# Altium footprint library POT.PcbLib: 30 footprints (part 2 of 2)
Each footprint in its own frame and in the unit in brackets; x right, y up, seen from the top. Pads: shape width x height; smd on the part's side, far side on the other; paste and mask are expansions set on the pad; w line width, h text height; cw(c..) or ccw(c..) is an arc to the next point about the centre after c.
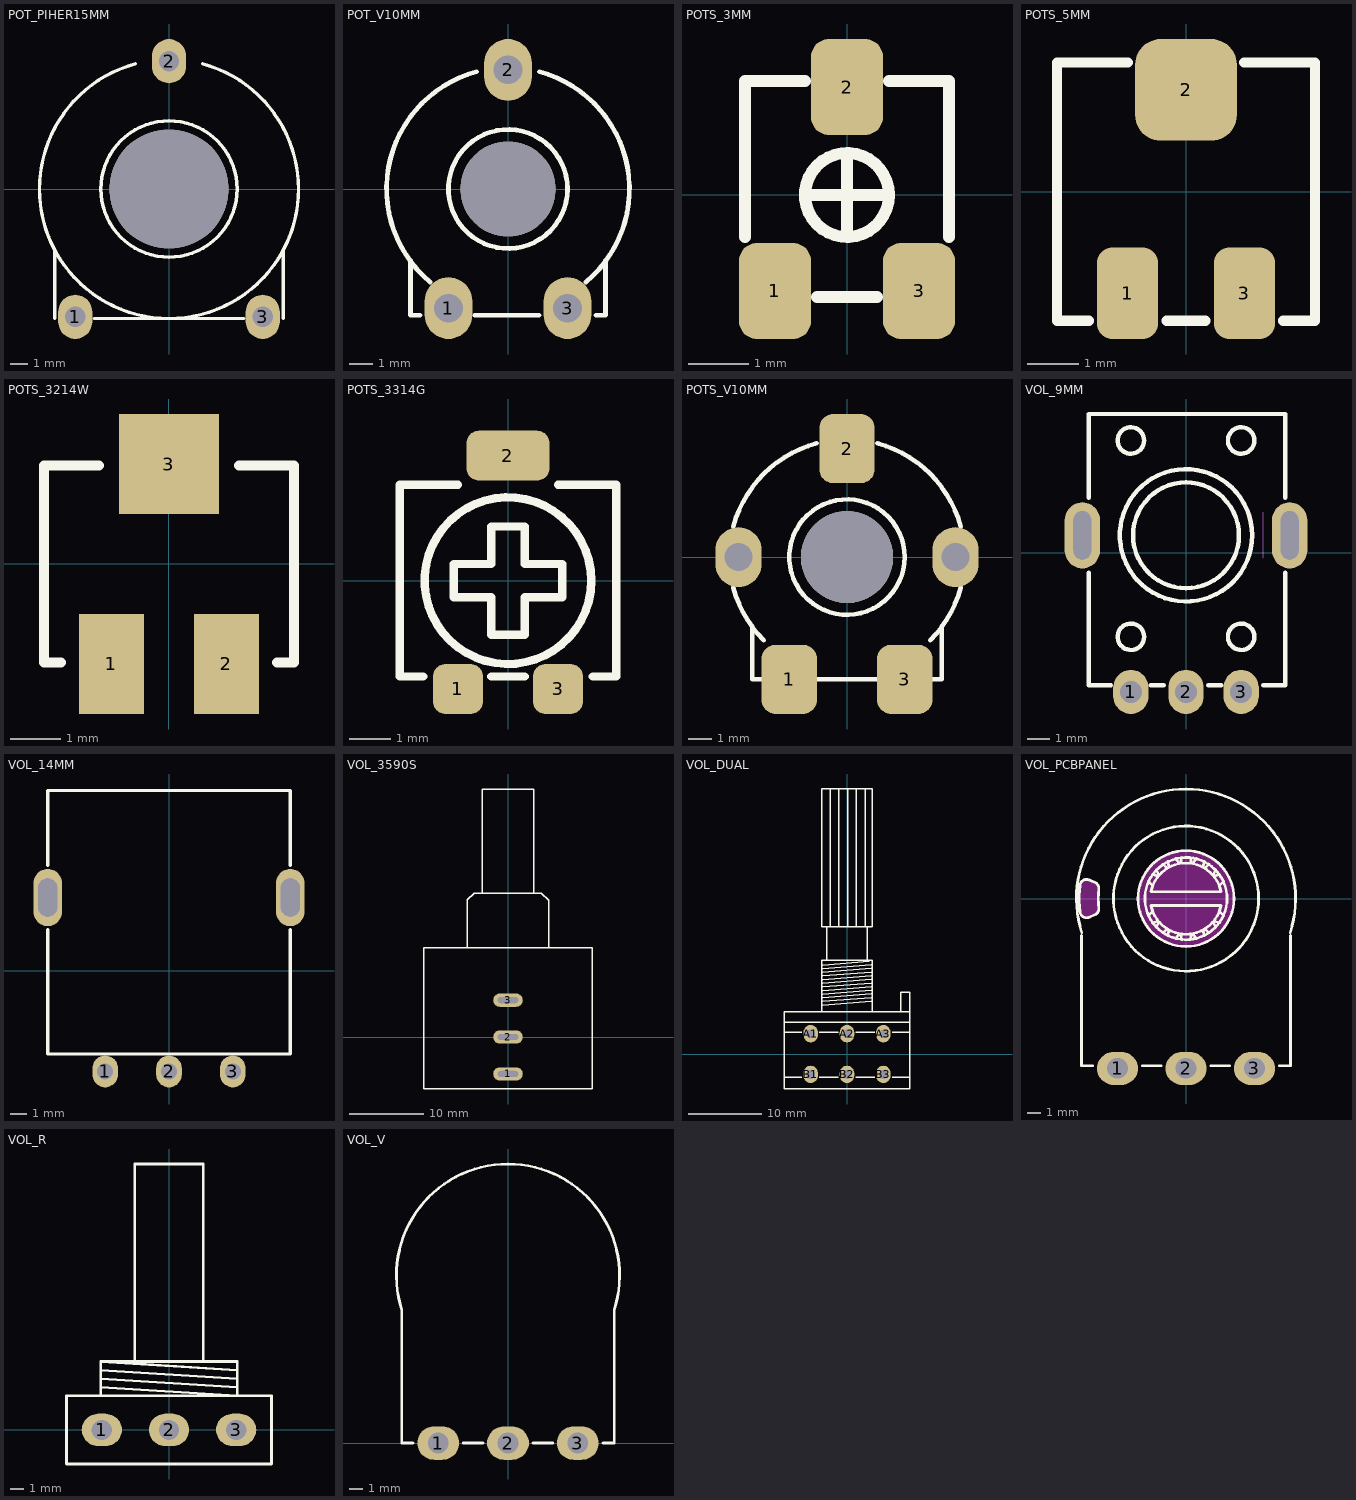
[diagram p1: the footprints below, top view; thin cyan lines are the x and y axes]

## POT_PIHER15MM [mm] "POT, TRIM, PIHER PT-15 15mm"
pads (4):
  oval 2x2.6 hole 1.2: 1(-5.5,-7.5) 2(0,7.5) 3(5.5,-7.5)
  round 7 hole 7 unplated mask+0.1: ""(0,0)
Top Overlay:
  circle w0.2: c0,0 r4
  lines w0.2: -6.7,-7.6 -6.7,-3.6 ; -4.4,-7.6 4.4,-7.6 ; -1.967,7.341 ccw(c0,0) -7.6,0 ccw(c0,0) 7.6,0 ccw(c0,0) 1.967,7.341 ; 6.7,-7.6 6.7,-3.6
3D body "Trimmer_Piher_PT-15.step": height 6.97, standoff -3.93, extent -7.5,-7.7 7.5,7.7

## POT_V10MM [mm] "POT, TRIM, V-10 10mm"
pads (4):
  oval 2x2.6 hole 1.2: 1(-2.5,-5) 2(0,5) 3(2.5,-5)
  round 4 hole 4 unplated mask+0.1: ""(0,0)
Top Overlay:
  circle w0.2: c0,0 r2.5
  lines w0.2: -4.1,-3 -4.1,-5.3 -3.7,-5.3 ; -3.278,-3.907 cw(c0,0) -1.32,4.926 ; -1.4,-5.3 1.3,-5.3 ; 1.32,4.926 cw(c0,0) 3.278,-3.907 ; 3.7,-5.3 4.1,-5.3 4.1,-3
3D body "User Library-Trimpot V10.step": height 5.9, standoff -3.4, extent -5.15,-5.207 5.15,5.093

## POTS_3MM [mm] "POT SMD, 3.0X3.0mm, Trimming PVG3A PVZ3A"
pads (3):
  rrect50% 1.2x1.6 smd: 1(-1.2,-1.6) 2(0,1.8) 3(1.2,-1.6)
Top Overlay:
  circle w0.2: c0,0 r0.7
  lines w0.2: -1.7,-0.7 -1.7,1.9 -0.7,1.9 ; -0.7,0 0.7,0 ; -0.5,-1.7 0.5,-1.7 ; 0,-0.7 0,0.7 ; 0.7,1.9 1.7,1.9 1.7,-0.7
3D body "User Library-PVZ3A.STEP": height 1.95, standoff 0, extent -1.55,-1.85 1.55,1.84

## POTS_5MM [mm] "POT SMD, 5.0X5.0mm, Trimming PVG5H"
pads (3):
  rrect50% 1.2x1.8 smd: 1(-1.15,-2) 3(1.15,-2)
  rrect50% 2x2 smd: 2(0,2)
Top Overlay:
  lines w0.2: -1.905,-2.54 -2.54,-2.54 -2.54,2.54 -1.143,2.54 ; -0.381,-2.54 0.381,-2.54 ; 1.143,2.54 2.54,2.54 2.54,-2.54 1.905,-2.54
3D body "User Library-PVG5H.STEP": height 3.7, standoff 0, extent -2.4,-2.55 2.4,2.55

## POTS_3214W [mm] "POT SMD, 4.0X5.0mm, Trimming SM-42/43W 3214W"
pads (3):
  rect 1.3x2 smd: 1(-1.15,-2) 2(1.15,-2)
  rect 2x2 smd: 3(0,2)
Top Overlay:
  lines w0.2: -2.159,-1.97 -2.5,-1.97 -2.5,1.97 -1.397,1.97 ; 1.397,1.97 2.5,1.97 2.5,-1.97 2.159,-1.97
3D body "SW3dPS-Pot 3214.STEP": height 5.4, standoff 0, extent -2.4,-1.97 2.4,1.97

## POTS_3314G [mm] "POT SMD, 5.0X5.0mm, Trimming, 3314G"
pads (3):
  rrect50% 1.2x1.2 smd: 1(-1.2,-2.6) 3(1.2,-2.6)
  rrect50% 2x1.2 smd: 2(0,3)
Top Overlay:
  circle w0.2: c0,0 r2
  lines w0.2: -1.3,-0.4 -1.3,0.4 -0.4,0.4 -0.4,1.3 0.4,1.3 0.4,0.4 1.3,0.4 1.3,-0.4 0.4,-0.4 0.4,-1.3 -0.4,-1.3 -0.4,-0.4 -1.3,-0.4
  lines w0.203: -2.032,-2.3 -2.6,-2.3 -2.6,2.3 -1.2,2.3 ; -0.4,-2.3 0.4,-2.3 ; 1.2,2.3 2.6,2.3 2.6,-2.3 2.032,-2.3
3D body "3314g-1-104e.stp": height 2.67, standoff -0.06, extent -2.451,-2.925 2.548,3.272

## POTS_V10MM [mm] "POT, TRIM, V-10 10mm SMD"
pads (6):
  rrect50% 2.4x3 smd: 1(-2.5,-5.3) 2(0,4.7) 3(2.5,-5.3)
  oval 2x2.6 hole 1.2: ""(-4.7,0) ""(4.7,0)
  round 4 hole 4 unplated mask+0.1: ""(0,0)
Top Overlay:
  circle w0.2: c0,0 r2.5
  lines w0.2: -4.926,-1.32 ccw(c0,0) -3.606,-3.606 ; -4.926,1.32 cw(c0,0) -1.32,4.926 ; -4.1,-3 -4.1,-5.3 -3.7,-5.3 ; -1.4,-5.3 1.3,-5.3 ; 1.32,4.926 cw(c0,0) 4.926,1.32 ; 3.606,-3.606 ccw(c0,0) 4.926,-1.32 ; 3.7,-5.3 4.1,-5.3 4.1,-3
3D body "User Library-Trimpot V60.step": height 5.7, standoff -0.85, extent -5.15,-5.742 5.15,5.15

## VOL_9MM [mm] "VOULME  9mm Alpha Alps, RV09ACF EVUF"
height 0.508
pads (5):
  oval 1.6x2 / inner round 1.4 / far side oval 1.6x2 hole 1: 1(-2.5,-6.3) 2(0,-6.3) 3(2.5,-6.3)
  oval 1.6x3 hole 0.8 slot 2.2 at 90 deg: ""(-4.7,0.8) ""(4.7,0.8)
Top Overlay:
  circle w0.2: c0,0.8 r2.4
  circle w0.2: c0,0.8 r3
  circle w0.2: c2.5,5.1 r0.6
  circle w0.2: c-2.5,5.1 r0.6
  circle w0.2: c2.5,-3.8 r0.6
  circle w0.2: c-2.5,-3.8 r0.6
  lines w0.2: -4.4,-0.9 -4.4,-6 -3.4,-6 ; -4.4,2.5 -4.4,6.3 4.5,6.3 4.5,2.5 ; -1.6,-6 -1,-6 ; 1,-6 1.6,-6 ; 3.5,-6 4.5,-6 4.5,-0.9
Mechanical 1:
  lines w0.008: 3.5,-0.25 3.5,1.85
3D body "User Library-RV09ACF-40_RK09K1130A5R.step": height 20.1, standoff -3.7, extent -4.902,-6.428 4.849,6.122

## VOL_14MM [mm] "VOULME  14mm, RV141F-40E3"
height 0.508
pads (5):
  oval 1.6x2 / inner round 1.4 / far side oval 1.6x2 hole 1: 1(-4,-6.3) 2(0,-6.3) 3(4,-6.3)
  oval 1.8x3.6 hole 1.2 slot 2.4 at 90 deg: ""(-7.6,4.6) ""(7.6,4.6)
Top Overlay:
  lines w0.2: -7.6,2.6 -7.6,-5.2 7.6,-5.2 7.6,2.6 ; -7.6,6.6 -7.6,11.3 7.6,11.3 7.6,6.6
3D body "User Library-RV141F-40E3-18BL-003.step": height 24.8, standoff -3.5, extent -8.198,-6.5 8.198,11.578

## VOL_3590S [mm] "VOULME 3590S"
height 0.508
pads (3):
  oval 4x1.8 hole 0.8 slot 2.8 at 0 deg: 1(0,-5) 2(0,0) 3(0,5)
Top Overlay:
  lines w0.2: -5.5,12.14 -5.5,18.6 -4.6,19.5 4.5,19.5 5.5,18.5 5.5,12.14 ; -3.5,19.5 -3.5,33.6 3.5,33.6 3.5,19.5 ; -11.4,-7.04 11.4,-7.04 11.4,12.1 -11.4,12.1 -11.4,-7.04
3D body "User Library-Bourns 3590S-2-502L.step": height 23.1, standoff -3.73, extent -11.3,-6.9 11.3,33.5

## VOL_DUAL [mm] "VOULME RIGHT ANGLE DUAL 3RP/1610G"
pads (6):
  oval 2x2.4 hole 1.2: A1(-5,2.8) A2(0,2.8) A3(5,2.8) B1(-5,-2.8) B2(0,-2.8) B3(5,-2.8)
Top Overlay:
  lines w0.2: -8.6,-3.2 -6.2,-3.2 ; -8.6,3 -6.2,3 ; -8.6,4.4 8.6,4.4 ; -3.8,-3.2 -1.2,-3.2 ; -3.8,3 -1.2,3 ; -3.5,5.8 -3.5,12.9 3.5,12.9 3.5,5.8 ; -3.3,6.727 3.3,7.252 ; -3.3,7.227 3.3,7.752 ; -3.3,7.727 3.3,8.252 ; -3.3,8.227 3.3,8.752 ; -3.3,8.727 3.3,9.252 ; -3.3,9.227 3.3,9.752 ; -3.3,9.727 3.3,10.252 ; -3.3,10.227 3.3,10.752 ; -3.3,10.727 3.3,11.252 ; -3.3,11.227 3.3,11.752 ; -3.3,11.727 3.3,12.252 ; -3.3,12.227 3.075,12.752 ; -2.8,12.927 -2.8,17.5 ; -2.3,17.5 -2.3,36.4 ; -1.1,17.5 -1.1,36.4 ; 0.1,17.5 0.1,36.4 ; 1.2,-3.2 3.8,-3.2 ; 1.2,3 3.8,3 ; 1.3,17.5 1.3,36.4 ; 2.5,17.5 2.5,36.4 ; 2.8,12.927 2.8,17.5 ; 6.2,-3.2 8.6,-3.2 ; 6.2,3 8.6,3 ; 7.4,5.8 7.4,8.5 8.6,8.5 8.6,5.8 -8.6,5.8 -8.6,-4.8 8.6,-4.8 8.6,6.3 ; -2.8,17.5 -3.5,17.5 -3.5,36.4 3.5,36.4 3.5,17.5 2.8,17.5 ; -2.8,17.5 2.8,17.5
3D body "SW3dPS-ALPHA-potentiometer stereo PCB mount.STEP": height 21.2, standoff -3.3, extent -8.5,-4.69 8.5,36.16

## VOL_PCBPANEL [mm] "VOULME VERTICAL"
height 0.508
pads (3):
  oval 3x2.4 hole 1.5: 1(-5,-12.4) 2(0,-12.4) 3(5,-12.4)
Top Overlay:
  circle w0.2: c0,0 r3
  circle w0.2: c0,0 r3.5
  circle w0.2: c0,0 r5.3
  lines w0.2: -7.742,-0.987 ccw(c-7.25,-0.9) -7.049,-1.358 -6.582,-1.15 ; -7.742,0.987 cw(c-7.25,0.9) -7.049,1.358 -6.582,1.15 ; -7.738,-0.978 cw(c0,0) -7.737,0.986 ; -7.62,-2.7 -7.62,-12.2 -6.8,-12.2 ; -7.608,-2.472 cw(c0,0) 7.608,-2.472 ; -6.584,-1.147 ccw(c-6.865,-0.734) -6.366,-0.708 ; -6.584,1.147 cw(c-6.865,0.734) -6.366,0.708 ; -6.361,-0.707 cw(c0,0) -6.361,0.707 ; -3.2,-12.2 -1.8,-12.2 ; -2.748,-1.24 -2.452,-0.954 ; -2.748,1.24 -2.452,0.954 ; -2.55,-0.51 ccw(c0,0) 2.55,-0.51 ; -2.55,0.51 cw(c0,0) 2.55,0.51 ; -2.5,-0.5 2.5,-0.5 ; -2.5,0.5 2.5,0.5 ; -2.448,-1.76 -2.052,-1.646 ; -2.448,1.76 -2.052,1.646 ; -2.158,-2.105 -1.978,-1.735 ; -2.158,2.105 -1.978,1.735 ; -1.699,-2.491 -1.365,-2.249 ; -1.699,2.491 -1.365,2.249 ; -1.308,-2.716 -1.265,-2.306 ; -1.308,2.716 -1.265,2.306 ; -0.744,-2.922 -0.513,-2.58 ; -0.744,2.922 -0.513,2.58 ; -0.4,-2.6 -0.3,-3 ; -0.4,2.6 -0.3,3 ; 0.3,-3 0.4,-2.6 ; 0.3,3 0.4,2.6 ; 0.513,-2.58 0.744,-2.922 ; 0.513,2.58 0.744,2.922 ; 1.265,-2.306 1.308,-2.716 ; 1.265,2.306 1.308,2.716 ; 1.365,-2.249 1.699,-2.491 ; 1.365,2.249 1.699,2.491 ; 1.8,-12.2 3.2,-12.2 ; 1.978,-1.735 2.158,-2.105 ; 1.978,1.735 2.158,2.105 ; 2.052,-1.646 2.448,-1.76 ; 2.052,1.646 2.448,1.76 ; 2.452,-0.954 2.748,-1.24 ; 2.452,0.954 2.748,1.24 ; 6.8,-12.2 7.62,-12.2 7.62,-2.7
Keep-Out Layer:
  board cut-out: -7.742,-0.987 -7.733,-1.043 -7.688,-1.147 -7.622,-1.239 -7.536,-1.314 -7.436,-1.368 -7.326,-1.397 -7.213,-1.402 -7.101,-1.381 -7.049,-1.358 -6.582,-1.15 -6.584,-1.147 -6.53,-1.111 -6.446,-1.014 -6.388,-0.898 -6.362,-0.772 -6.366,-0.708 -6.361,-0.707 -6.378,-0.531 -6.398,-0.177 -6.398,0.177 -6.378,0.531 -6.361,0.707 -6.366,0.708 -6.362,0.772 -6.388,0.898 -6.446,1.014 -6.53,1.111 -6.584,1.147 -6.582,1.15 -7.049,1.358 -7.101,1.381 -7.213,1.402 -7.326,1.397 -7.436,1.368 -7.536,1.314 -7.622,1.239 -7.688,1.147 -7.733,1.043 -7.742,0.987 -7.737,0.986 -7.769,0.741 -7.802,0.247 -7.803,-0.248 -7.773,-0.741
  board cut-out: 0,-3.5 -0.229,-3.5 -0.684,-3.44 -1.127,-3.321 -1.551,-3.146 -1.949,-2.916 -2.313,-2.637 -2.637,-2.313 -2.916,-1.949 -3.146,-1.551 -3.321,-1.127 -3.44,-0.684 -3.5,-0.229 -3.5,0 -3.5,0.229 -3.44,0.684 -3.321,1.127 -3.146,1.551 -2.916,1.949 -2.637,2.313 -2.313,2.637 -1.949,2.916 -1.551,3.146 -1.127,3.321 -0.684,3.44 -0.229,3.5 0,3.5 0.229,3.5 0.684,3.44 1.127,3.321 1.551,3.146 1.949,2.916 2.313,2.637 2.637,2.313 2.916,1.949 3.146,1.551 3.321,1.127 3.44,0.684 3.5,0.229 3.5,0 3.5,-0.229 3.44,-0.684 3.321,-1.127 3.146,-1.551 2.916,-1.949 2.637,-2.313 2.313,-2.637 1.949,-2.916 1.551,-3.146 1.127,-3.321 0.684,-3.44 0.229,-3.5
Keep-Out Layer:
  circle w0.2: c0,0 r3.5
  lines w0.2: -7.742,-0.987 ccw(c-7.25,-0.9) -7.049,-1.358 -6.582,-1.15 ; -7.742,0.987 cw(c-7.25,0.9) -7.049,1.358 -6.582,1.15 ; -7.738,-0.978 cw(c0,0) -7.737,0.986 ; -6.584,-1.147 ccw(c-6.865,-0.734) -6.366,-0.708 ; -6.584,1.147 cw(c-6.865,0.734) -6.366,0.708 ; -6.361,-0.707 cw(c0,0) -6.361,0.707
3D body "volome cover2.STEP": height 22.5, standoff 2.5, extent -7.56,-7.585 9.551,7.585
3D body "Standard Potentiometer - Vertical (No Value).STEP": height 10.77, standoff -15.23, extent -8.575,-12.65 8.625,8.6

## VOL_R [mm] "VOULME RIGHT ANGLE"
height 0.508
pads (3):
  oval 3x2.4 hole 1.5: 1(-5,0) 2(0,0) 3(5,0)
Top Overlay:
  lines w0.2: -5.08,2.54 -5.08,5.08 ; -5.08,3.175 5.08,2.54 5.08,5.08 -5.08,5.08 ; -5.08,3.81 5.08,3.175 ; -5.08,4.445 5.08,3.81 ; -2.54,5.08 -2.54,19.781 2.54,19.781 2.54,5.08 ; 5.08,4.445 -5.08,5.08 ; -7.62,-2.54 -7.62,2.54 7.62,2.54 7.62,-2.54 -7.62,-2.54
3D body "SW3dPS-Pot.STEP": height 20.64, standoff -4, extent -7.947,-4.998 7.801,20.56
3D body "volome cover2.STEP": height 24.54, standoff 2.14, extent -10.761,7.8 10.932,27.8

## VOL_V [mm] "VOULME VERTICAL"
height 0.508
pads (3):
  oval 3x2.4 hole 1.5: 1(-5,0) 2(0,0) 3(5,0)
Top Overlay:
  lines w0.2: -7.62,9.5 -7.62,0 -6.8,0 ; -7.608,9.528 cw(c0,12) 7.608,9.528 ; -3.2,0 -1.8,0 ; 1.8,0 3.2,0 ; 6.8,0 7.62,0 7.62,9.5
3D body "volome cover2.STEP": height 31.2, standoff 11.2, extent -7.666,4.388 9.444,19.558
3D body "Standard Potentiometer - Vertical (No Value).STEP": height 24.26, standoff -1.74, extent -8.564,-0.338 8.636,20.912